# Altium schematic symbol library SCH_Library.SchLib: 17 symbols
Pins are listed as number, name and electrical type; pins without a type are passive.

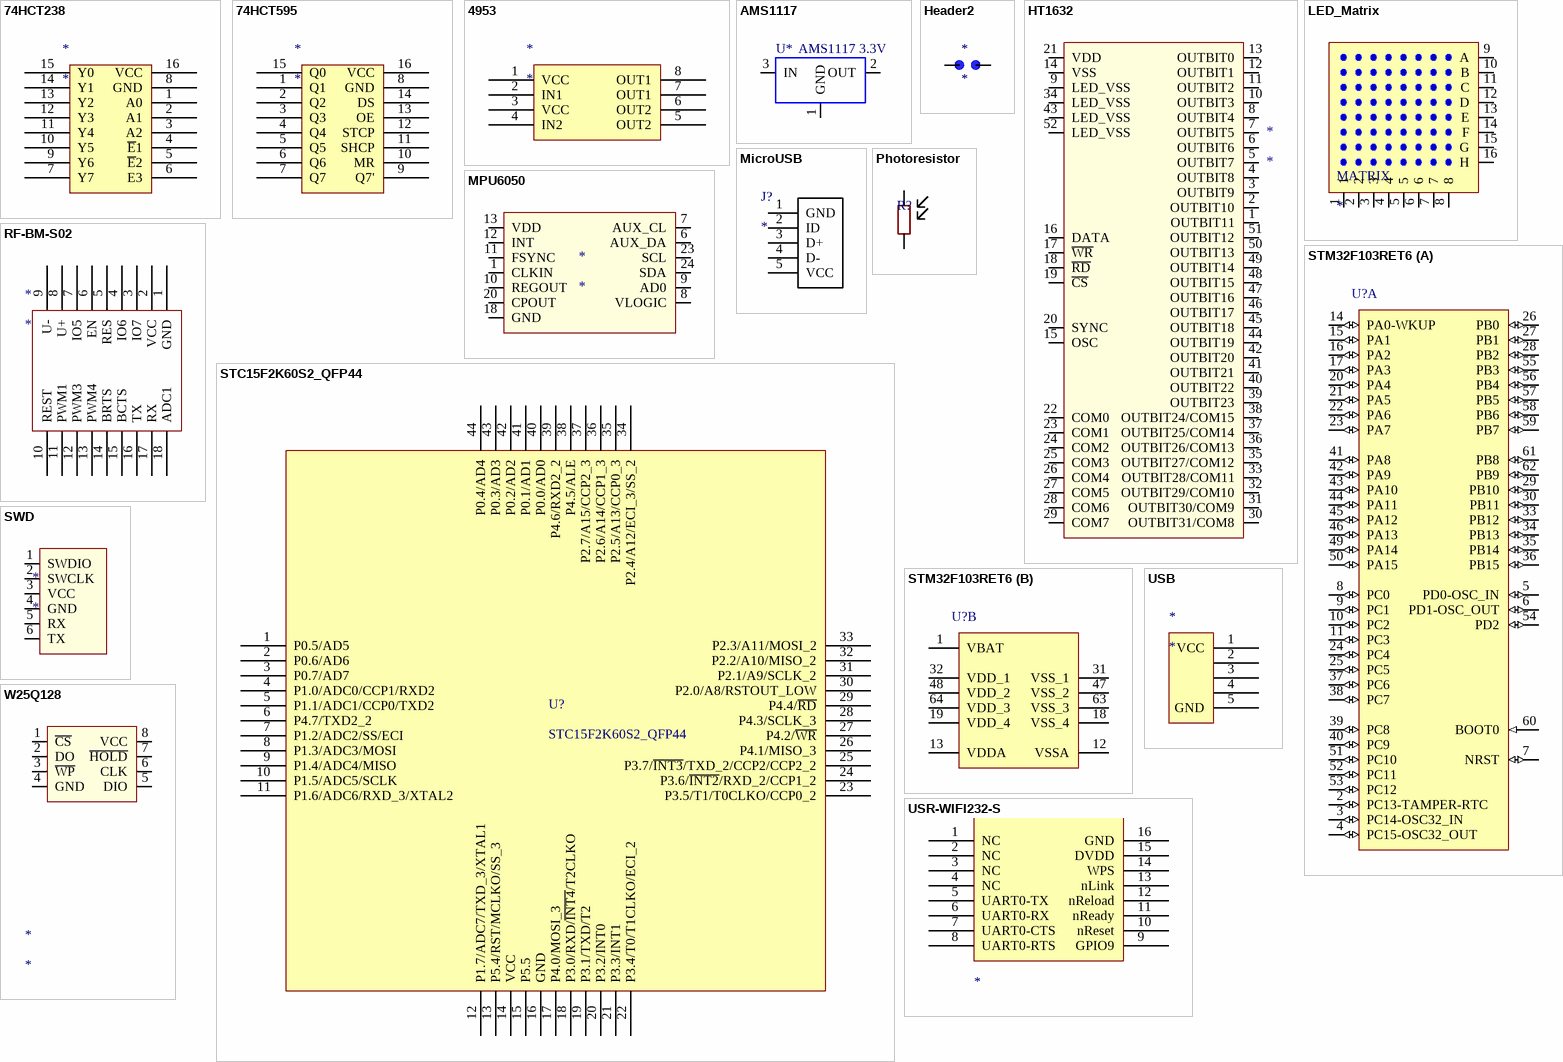
[diagram p0: symbols 74HCT238 to W25Q128]

## 74HCT238
designator *
footprint SO-16_L (SOIC, 16-Leads, Body 9.9x3.9mm, Pitch 1.27mm, IPC High Density)
pins: 1 A0, 2 A1, 3 A2, 4 ~{E}1, 5 ~{E}2, 6 E3, 7 Y7, 8 GND, 9 Y6, 10 Y5, 11 Y4, 12 Y3, 13 Y2, 14 Y1, 15 Y0, 16 VCC

## 74HCT595
designator *
footprint SO-16_L (SOIC, 16-Leads, Body 9.9x3.9mm, Pitch 1.27mm, IPC High Density)
pins: 1 Q1, 2 Q2, 3 Q3, 4 Q4, 5 Q5, 6 Q6, 7 Q7, 8 GND, 9 Q7', 10 MR, 11 SHCP, 12 STCP, 13 OE, 14 DS, 15 Q0, 16 VCC

## 4953
designator *
footprint SO8_L (SOIC, 8-Leads, Body 4.9x3.9mm, Pitch 1.27mm, IPC High Density)
pins: 1 VCC, 2 IN1, 3 VCC, 4 IN2, 5 OUT2, 6 OUT2, 7 OUT1, 8 OUT1

## AMS1117
designator U*, comment AMS1117 3.3V
footprint SOT-223 (SOT-223/SC-73; 4 Leads; Body 6.7 x 7.3 mm, inc. leads (LxW max))
pins: 1 GND, 2 OUT, 3 IN

## Header2
designator *
pins: 1, 2

## HT1632
designator *
footprint HT1632
pins: 1 OUTBIT11, 2 OUTBIT10, 3 OUTBIT9, 4 OUTBIT8, 5 OUTBIT7, 6 OUTBIT6, 7 OUTBIT5, 8 OUTBIT4, 9 LED_VSS, 10 OUTBIT3, 11 OUTBIT2, 12 OUTBIT1, 13 OUTBIT0, 14 VSS, 15 OSC, 16 DATA, 17 ~{WR}, 18 ~{RD}, 19 ~{CS}, 20 SYNC, 21 VDD, 22 COM0, 23 COM1, 24 COM2, 25 COM3, 26 COM4, 27 COM5, 28 COM6, 29 COM7, 30 OUTBIT31/COM8, 31 OUTBIT30/COM9, 32 OUTBIT29/COM10, 33 OUTBIT28/COM11, 34 LED_VSS, 35 OUTBIT27/COM12, 36 OUTBIT26/COM13, 37 OUTBIT25/COM14, 38 OUTBIT24/COM15, 39 OUTBIT23, 40 OUTBIT22, 41 OUTBIT21, 42 OUTBIT20, 43 LED_VSS, 44 OUTBIT19, 45 OUTBIT18, 46 OUTBIT17, 47 OUTBIT16, 48 OUTBIT15, 49 OUTBIT14, 50 OUTBIT13, 51 OUTBIT12, 52 LED_VSS

## LED_Matrix
designator MATRIX
footprint LED_Matrix
pins: 1, 2, 3, 4, 5, 6, 7, 8, 9 A, 10 B, 11 C, 12 D, 13 E, 14 F, 15 G, 16 H

## MicroUSB
designator J?
Imported
footprint MicroUSB
pins: 1 GND, 2 ID, 3 D+, 4 D-, 5 VCC

## MPU6050
designator *
footprint MPU6050 (QFN, 24-Leads, Body 4.00x4.00mm, Pitch 0.50mm, Thermal Pad 2.60x2.60mm, IPC Medium Density)
pins: 1 CLKIN, 6 AUX_DA, 7 AUX_CL, 8 VLOGIC, 9 AD0, 10 REGOUT, 11 FSYNC, 12 INT, 13 VDD, 18 GND, 20 CPOUT, 23 SCL, 24 SDA

## Photoresistor
designator R?
pins: 1, 2

## RF-BM-S02
designator *
footprint RF-BM-S02
pins: 1 GND, 2 VCC, 3 IO7, 4 IO6, 5 RES, 6 EN, 7 IO5, 8 U+, 9 U-, 10 REST, 11 PWM1, 12 PWM3, 13 PWM4, 14 BRTS, 15 BCTS, 16 TX, 17 RX, 18 ADC1

## STC15F2K60S2_QFP44
designator U?
footprint PQFP44
footprint LQFP44
pins: 1 P0.5/AD5, 2 P0.6/AD6, 3 P0.7/AD7, 4 P1.0/ADC0/CCP1/RXD2, 5 P1.1/ADC1/CCP0/TXD2, 6 P4.7/TXD2_2, 7 P1.2/ADC2/SS/ECI, 8 P1.3/ADC3/MOSI, 9 P1.4/ADC4/MISO, 10 P1.5/ADC5/SCLK, 11 P1.6/ADC6/RXD_3/XTAL2, 12 P1.7/ADC7/TXD_3/XTAL1, 13 P5.4/RST/MCLKO/SS_3, 14 VCC, 15 P5.5, 16 GND, 17 P4.0/MOSI_3, 18 P3.0/RXD/~{INT4}/T2CLKO, 19 P3.1/TXD/T2, 20 P3.2/INT0, 21 P3.3/INT1, 22 P3.4/T0/T1CLKO/ECI_2, 23 P3.5/T1/T0CLKO/CCP0_2, 24 P3.6/~{INT2}/RXD_2/CCP1_2, 25 P3.7/~{INT3}/TXD_2/CCP2/CCP2_2, 26 P4.1/MISO_3, 27 P4.2/~{WR}, 28 P4.3/SCLK_3, 29 P4.4/~{RD}, 30 P2.0/A8/RSTOUT_LOW, 31 P2.1/A9/SCLK_2, 32 P2.2/A10/MISO_2, 33 P2.3/A11/MOSI_2, 34 P2.4/A12/ECI_3/SS_2, 35 P2.5/A13/CCP0_3, 36 P2.6/A14/CCP1_3, 37 P2.7/A15/CCP2_3, 38 P4.5/ALE, 39 P4.6/RXD2_2, 40 P0.0/AD0, 41 P0.1/AD1, 42 P0.2/AD2, 43 P0.3/AD3, 44 P0.4/AD4

## STM32F103RET6
designator U?
ARM Cortex-M3 32-bit MCU, 512 KB Flash, 64 KB Internal RAM, 51 I/Os, 64-pin LQFP, -40 to 85 degC, Tray; PartNumber: STM32F103RET6; A/D Converter: 3x12-bit (16 Channel); D/A Converter: 2x12-bit (2 Channel); FLASH Size (Prog) (kB): 512; I/Os (High Current): 51; Internal RAM Size (kB): 64; Operating Frequency(F) (Processor speed) (MHz): 72; Supply Voltage(Vcc) min (V): 2; DatasheetVersion: Rev. 8; PackageVersion: Rev. 4, 06/2013; PackageReference: LQFP64; PackageDescription: 64-Pin Low Profile Quad Flat Package, 10 x 10 mm Body, 0.5 mm Pitch; Supplier 1: Digi-Key; Supplier Part Number 1: 497-6444-ND; Supplier 2: Farnell; Supplier Part Number 2: 1624138; Supplier 3: Newark; Supplier Part Number 3: 01P4101; Supplier 4: Newark; Supplier Part Number 4: 57P1231; Supplier 5: Mouser; Supplier Part Number 5: 511-STM32F103RET6; Core: ARM Cortex-M3; Packing: Tray; Mounting Technology: Surface Mount; ComponentLink1Description: Manufacturer URL; ComponentLink1URL: http://www.st.com/web/en/home.html; ComponentLink2Description: Datasheet; ComponentLink2URL: http://www.st.com/st-web-ui/static/active/en/resource/technical/document/datasheet/CD00191185.pdf; ComponentLink3Description: Package Specification; ComponentLink3URL: http://www.st.com/st-web-ui/static/active/en/resource/technical/document/datasheet/DM00037051.pdf
footprint STM-LQFP64_M (Thin QFP, 64-Leads, Body 10x10mm, Pitch 0.5mm, IPC Low Density)
footprint STM-LQFP64_M (Thin QFP, 64-Leads, Body 10x10mm, Pitch 0.5mm, IPC Low Density)
part A pins: 2 PC13-TAMPER-RTC (io) "PC13-TAMPER-RTC/PC13/TAMPER-RTC", 3 PC14-OSC32_IN (io) "PC14-OSC32_IN/PC14/OSC32_IN", 4 PC15-OSC32_OUT (io) "PC15-OSC32_OUT/PC15/OSC32_OUT", 5 PD0-OSC_IN (io) "PD0/OSC_IN/CAN_RX", 6 PD1-OSC_OUT (io) "PD1/OSC_OUT/CAN_TX", 7 NRST (io), 8 PC0 (io) "PC0/ADC123_IN10", 9 PC1 (io) "PC1/ADC123_IN11", 10 PC2 (io) "PC2/ADC123_IN12", 11 PC3 (io) "PC3/ADC123_IN13", 14 PA0-WKUP (io) "PA0-WKUP/PA0/WKUP/USART2_CTS/ADC123_IN0/TIM2_CH1_ETR/TIM5_CH1/TIM8_ETR", 15 PA1 (io) "PA1/USART2_RTS/ADC123_IN1/TIM5_CH2/TIM2_CH2", 16 PA2 (io) "PA2/USART2_TX/TIM5_CH3/ADC123_IN2/TIM2_CH3", 17 PA3 (io) "PA3/USART2_RX/TIM5_CH4/ADC123_IN3/TIM2_CH4", 20 PA4 (io) "PA4/SPI1_NSS/USART2_CK/DAC_OUT1/ADC12_IN4", 21 PA5 (io) "PA5/SPI1_SCK/DAC_OUT2/ADC12_IN5", 22 PA6 (io) "PA6/SPI1_MISO/TIM8_BKIN/ADC12_IN6/TIM3_CH1/TIM1_BKIN", 23 PA7 (io) "PA7/SPI1_MOSI/TIM8_CH1N/ADC12_IN7/TIM3_CH2/TIM1_CH1N", 24 PC4 (io) "PC4/ADC12_IN14", 25 PC5 (io) "PC5/ADC12_IN15", 26 PB0 (io) "PB0/ADC12_IN8/TIM3_CH3/TIM8_CH2N/TIM1_CH2N", 27 PB1 (io) "PB1/ADC12_IN9/TIM3_CH4/TIM8_CH3N/TIM1_CH3N", 28 PB2 (io) "PB2/BOOT1", 29 PB10 (io) "PB10/I2C2_SCL/USART3_TX/TIM2_CH3", 30 PB11 (io) "PB11/I2C2_SDA/USART3_RX/TIM2_CH4", 33 PB12 (io) "PB12/SPI2_NSS/I2S2_WS/I2C2_SMBA/USART3_CK/TIM1_BKIN", 34 PB13 (io) "PB13/SPI2_SCK/I2S2_CK/USART3_CTS/TIM1_CH1N", 35 PB14 (io) "PB14/SPI2_MISO/TIM1_CH2N/USART3_RTS", 36 PB15 (io) "PB15/SPI2_MOSI/I2S2_SD/TIM1_CH3N", 37 PC6 (io) "PC6/I2S2_MCK/TIM8_CH1/SDIO_D6/TIM3_CH1", 38 PC7 (io) "PC7/I2S3_MCK/TIM8_CH2/SDIO_D7/TIM3_CH2", 39 PC8 (io) "PC8/TIM8_CH3/SDIO_D0/TIM3_CH3", 40 PC9 (io) "PC9/TIM8_CH4/SDIO_D1/TIM3_CH4", 41 PA8 (io) "PA8/USART1_CK/TIM1_CH1/MCO", 42 PA9 (io) "PA9/USART1_TX/TIM1_CH2", 43 PA10 (io) "PA10/USART1_RX/TIM1_CH3", 44 PA11 (io) "PA11/USART1_CTS/USBDM/CAN_RX/TIM1_CH4", 45 PA12 (io) "PA12/USART1_RTS/USBDP/CAN_TX/TIM1_ETR", 46 PA13 (io) "PA13/JTMS-SWDIO", 49 PA14 (io) "PA14/JTCK-SWCLK", 50 PA15 (io) "PA15/JTDI/SPI3_NSS/I2S3_WS/TIM2_CH1_ETR/SPI1_NSS", 51 PC10 (io) "PC10/UART4_TX/SDIO_D2/USART3_TX", 52 PC11 (io) "PC11/UART4_RX/SDIO_D3/USART3_RX", 53 PC12 (io) "PC12/UART5_TX/SDIO_CK/USART3_CK", 54 PD2 (io) "PD2/TIM3_ETR/UART5_RX/SDIO_CMD", 55 PB3 (io) "PB3/JTDO/SPI3_SCK/I2S3_CK/TRACESWO/TIM2_CH2/SPI1_SCK", 56 PB4 (io) "PB4/NJTRST/SPI3_MISO/TIM3_CH1/SPI1_MISO", 57 PB5 (io) "PB5/I2C1_SMBA/SPI3_MOSI/I2S3_SD/TIM3_CH2/SPI1_MOSI", 58 PB6 (io) "PB6/I2C1_SCL/TIM4_CH1/USART1_TX", 59 PB7 (io) "PB7/I2C1_SDA/TIM4_CH2/USART1_RX", 60 BOOT0 (in), 61 PB8 (io) "PB8/TIM4_CH3/SDIO_D4/I2C1_SCL/CAN_RX", 62 PB9 (io) "PB9/TIM4_CH4/SDIO_D5/I2C1_SDA/CAN_TX"
part B pins: 1 VBAT (power), 12 VSSA (power), 13 VDDA (power), 18 VSS_4 (power), 19 VDD_4 (power), 31 VSS_1 (power), 32 VDD_1 (power), 47 VSS_2 (power), 48 VDD_2 (power), 63 VSS_3 (power), 64 VDD_3 (power)

## SWD
designator *
pins: 1 SWDIO, 2 SWCLK, 3 VCC, 4 GND, 5 RX, 6 TX

## USB
designator *
pins: 1 VCC, 2, 3, 4, 5 GND

## USR-WIFI232-S
designator ?
footprint USR-WIFI232-S
pins: 1 NC, 2 NC, 3 NC, 4 NC, 5 UART0-TX, 6 UART0-RX, 7 UART0-CTS, 8 UART0-RTS, 9 GPIO9, 10 nReset, 11 nReady, 12 nReload, 13 nLink, 14 WPS, 15 DVDD, 16 GND
2 alternate drawings of the same symbol

## W25Q128
designator *
pins: 1 ~{CS}, 2 DO, 3 ~{WP}, 4 GND, 5 DIO, 6 CLK, 7 ~{HOLD}, 8 VCC